# EAGLE library part 61303411021 (library Wurth_Elektronik_Electromechanic_Board_to_Board_Connectors_rev16a)
WR-PHD 2.54mm Angled Pin Header, 34 Pins/=>Con_BTB_PHD_2.54_1_THT_61303411021 <http://katalog.we-online.de/media/images/eican/Con_BTB_PHD_2.54_1_THT_61303211021_pf2.jpg> Details see: http://katalog.we-online.de/en/em/613_0xx_110_21 Created 2014-05-29, Karrer Zheng 2014 (C) Würth Elektronik
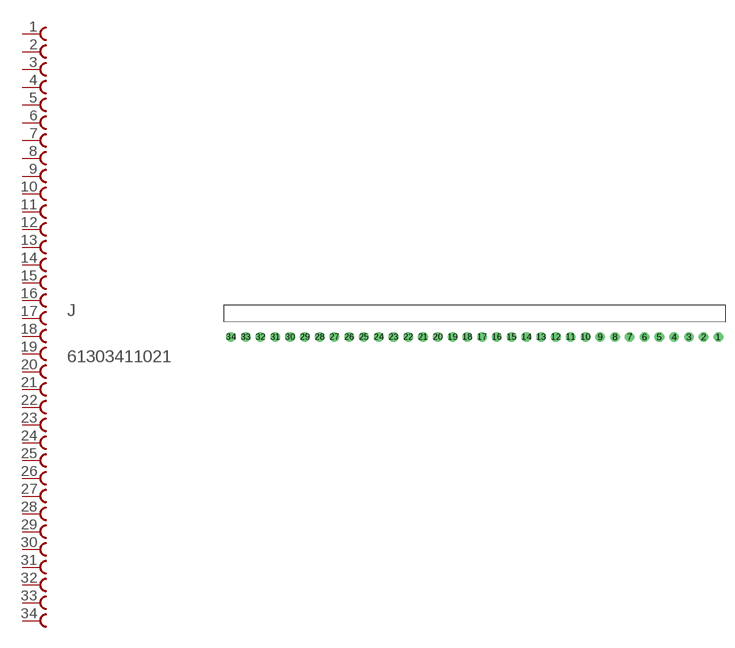
[diagram p50: symbol with the pads of 61303411021; footprint 61303411021]

Designator prefix J

## 61303411021  [61303411021]
1  1  pas
2  2  pas
3  3  pas
4  4  pas
5  5  pas
6  6  pas
7  7  pas
8  8  pas
9  9  pas
10  10  pas
11  11  pas
12  12  pas
13  13  pas
14  14  pas
15  15  pas
16  16  pas
17  17  pas
18  18  pas
19  19  pas
20  20  pas
21  21  pas
22  22  pas
23  23  pas
24  24  pas
25  25  pas
26  26  pas
27  27  pas
28  28  pas
29  29  pas
30  30  pas
31  31  pas
32  32  pas
33  33  pas
34  34  pas

## Footprint 61303411021 (pad centres in mm)
WR-PHD 2.54mm Angled Pin Header, 34 Pins
drill 1.1: 1 41.91,0; 2 39.37,0; 3 36.83,0; 4 34.29,0; 5 31.75,0; 6 29.21,0; 7 26.67,0; 8 24.13,0; 9 21.59,0; 10 19.05,0; 11 16.51,0; 12 13.97,0; 13 11.43,0; 14 8.89,0; 15 6.35,0; 16 3.81,0; 17 1.27,0; 18 -1.27,0; 19 -3.81,0; 20 -6.35,0; 21 -8.89,0; 22 -11.43,0; 23 -13.97,0; 24 -16.51,0; 25 -19.05,0; 26 -21.59,0; 27 -24.13,0; 28 -26.67,0; 29 -29.21,0; 30 -31.75,0; 31 -34.29,0; 32 -36.83,0; 33 -39.37,0; 34 -41.91,0